# Altium footprint library CAPPRD250W50D400H800V - 0 - 0.PcbLib: 1 footprints
Each footprint in its own frame and in the unit in brackets; x right, y up, seen from the top. Pads: shape width x height; smd on the part's side, far side on the other; paste and mask are expansions set on the pad; w line width, h text height; cw(c..) or ccw(c..) is an arc to the next point about the centre after c.
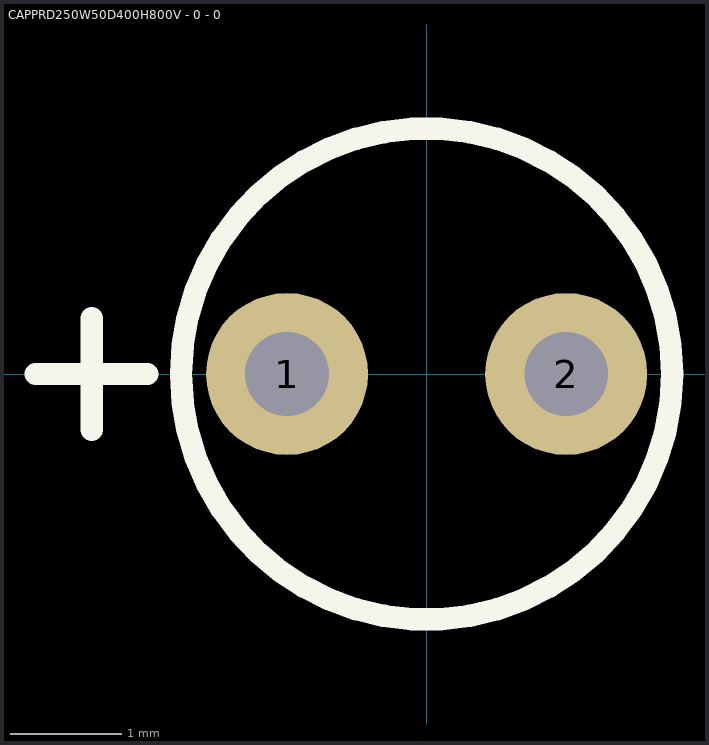
[diagram p0: the footprint, top view; thin cyan lines are the x and y axes]

## CAPPRD250W50D400H800V - 0 - 0 [mm] "CAP ALUM RADIAL DIA 4MM HEIGHT 8MM PITCH 2.5MM"
pads (2):
  round 1.45 hole 0.75: 1(-1.25,0) 2(1.25,0)
Top Overlay:
  circle w0.2: c0,0 r2.2
  lines w0.2: -3.5,0 -2.5,0 ; -3,-0.5 -3,0.5
3D body: height 8, standoff 0, extent -2,-2 2,2